# Altium footprint library CN_CNEDGE44_90.PcbLib: 1 footprints
Each footprint in its own frame and in the unit in brackets; x right, y up, seen from the top. Pads: shape width x height; smd on the part's side, far side on the other; paste and mask are expansions set on the pad; w line width, h text height; cw(c..) or ccw(c..) is an arc to the next point about the centre after c.
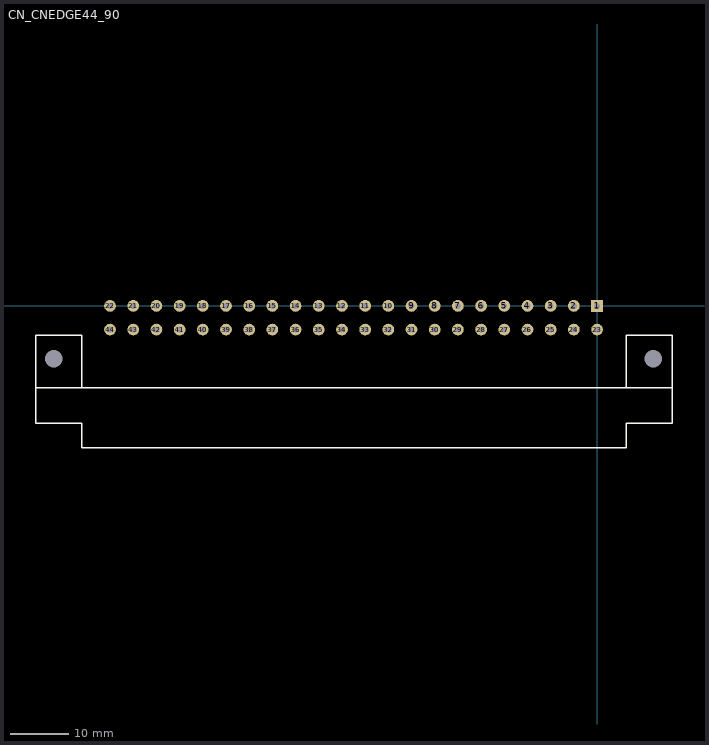
[diagram p0: the footprint, top view; thin cyan lines are the x and y axes]

## CN_CNEDGE44_90 [mm]
pads (46):
  rect 2x2 hole 1: 1(0,0)
  round 2 hole 1: 2(-3.96,0) 3(-7.92,0) 4(-11.88,0) 5(-15.84,0) 6(-19.8,0) 7(-23.76,0) 8(-27.72,0) 9(-31.68,0) 10(-35.64,0) 11(-39.6,0) 12(-43.56,0) 13(-47.52,0) 14(-51.48,0) 15(-55.44,0) 16(-59.4,0) 17(-63.36,0) 18(-67.32,0) 19(-71.28,0) 20(-75.24,0) 21(-79.2,0) 22(-83.16,0) 23(0,-4.04) 24(-3.96,-4.04) 25(-7.92,-4.04) 26(-11.88,-4.04) 27(-15.84,-4.04) 28(-19.8,-4.04) 29(-23.76,-4.04) 30(-27.72,-4.04) 31(-31.68,-4.04) 32(-35.64,-4.04) 33(-39.6,-4.04) 34(-43.56,-4.04) 35(-47.52,-4.04) 36(-51.48,-4.04) 37(-55.44,-4.04) 38(-59.4,-4.04) 39(-63.36,-4.04) 40(-67.32,-4.04) 41(-71.28,-4.04) 42(-75.24,-4.04) 43(-79.2,-4.04) 44(-83.16,-4.04)
  round 0 hole 3 unplated mask+1.5: MH(-92.74,-9) MH(9.58,-9)
Top Overlay:
  lines w0.254: -95.834,-13.97 12.827,-13.97 ; -88,-14 -88,-5 -95.809,-5 -95.809,-11.809 -95.809,-20 -88,-20 -88,-24.257 5,-24.257 5,-20 12.802,-20 12.802,-16.198 12.802,-5 5,-5 5,-14
3D body: height 8.26, standoff 0, extent -95.86,-24.282 12.802,-9.855